# EAGLE library part CN_10P (library lieBtrau)
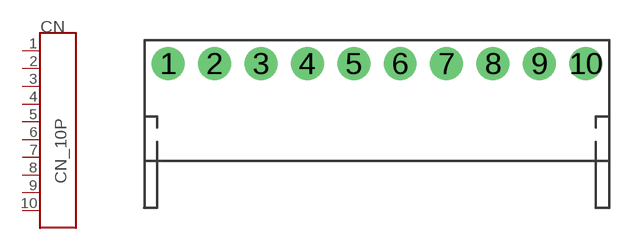
[diagram p5: symbol with the pads of CN_HDR_1X10_90D_P254_MOLEX_4455; footprint CN_HDR_1X10_90D_P254_MOLEX_4455]

Designator prefix CN

## CN_10P_MOLEX_4455_ (COST: 1.18; ORDERCODE: WM3219-ND; VALUE: MOLEX 4455)  [CN_HDR_1X10_90D_P254_MOLEX_4455]
1  1
2  2
3  3
4  4
5  5
6  6
7  7
8  8
9  9
10  10

## Footprint CN_HDR_1X10_90D_P254_MOLEX_4455 (pad centres in mm)
drill 1.1 pad 1.8: 1 0,0; 2 2.54,0; 3 5.08,0; 4 7.62,0; 5 10.16,0; 6 12.7,0; 7 15.24,0; 8 17.78,0; 9 20.32,0; 10 22.86,0